# Altium footprint library RF219AT0050G.PcbLib: 1 footprints
Each footprint in its own frame and in the unit in brackets; x right, y up, seen from the top. Pads: shape width x height; smd on the part's side, far side on the other; paste and mask are expansions set on the pad; w line width, h text height; cw(c..) or ccw(c..) is an arc to the next point about the centre after c.
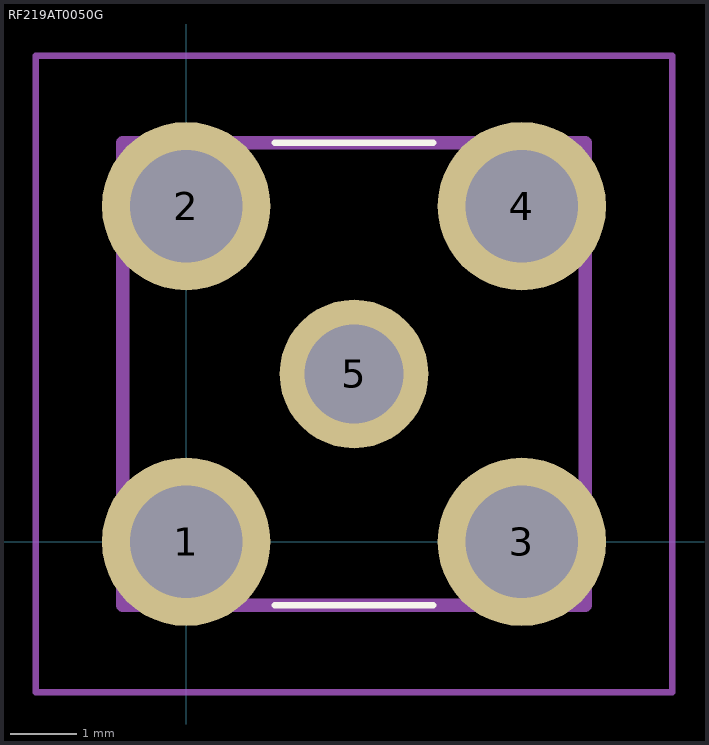
[diagram p0: the footprint, top view; thin cyan lines are the x and y axes]

## RF219AT0050G [mm]
pads (5):
  round 2.55 hole 1.7: 1(0,0) 2(0,5.08) 3(5.08,0) 4(5.08,5.08)
  round 2.25 hole 1.5: 5(2.54,2.54)
Top Overlay:
  lines w0.1: 1.34,-0.96 3.74,-0.96 ; 1.34,6.04 3.74,6.04
Mechanical 15:
  lines w0.2: -0.96,-0.96 6.04,-0.96 6.04,6.04 -0.96,6.04 -0.96,-0.96
Mechanical 20:
  lines w0.1: -2.275,-2.275 7.355,-2.275 7.355,7.355 -2.275,7.355 -2.275,-2.275